# Altium footprint library PcbLib1.PcbLib: 3 footprints
Each footprint in its own frame and in the unit in brackets; x right, y up, seen from the top. Pads: shape width x height; smd on the part's side, far side on the other; paste and mask are expansions set on the pad; w line width, h text height; cw(c..) or ccw(c..) is an arc to the next point about the centre after c.
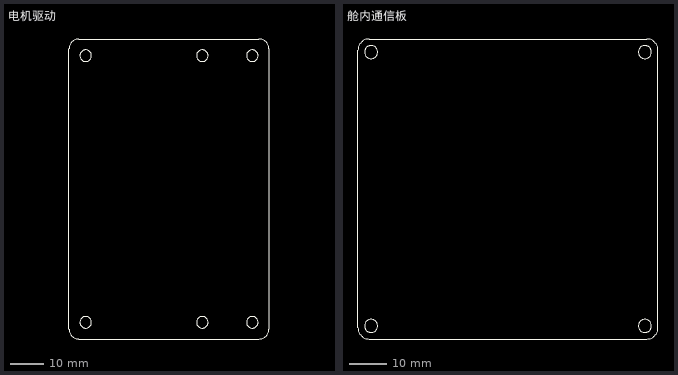
[diagram p0: the footprints below, top view; thin cyan lines are the x and y axes]

## 主控 [mm]

## 电机驱动 [mm]
Top Overlay:
  circle w0.013: c-1229.994,-1184.994 r1.75
  circle w0.013: c-1214.994,-1264.994 r1.75
  circle w0.013: c-1264.994,-1184.994 r1.75
  circle w0.013: c-1214.994,-1184.994 r1.75
  circle w0.013: c-1264.994,-1264.994 r1.75
  circle w0.013: c-1229.994,-1264.994 r1.75
  lines w0.013: -1269.994,-1266.994 ccw(c-1266.994,-1266.994) -1266.994,-1269.994 -1212.994,-1269.994 ccw(c-1212.994,-1266.994) -1209.994,-1266.994 -1209.994,-1182.994 ccw(c-1212.994,-1182.994) -1212.994,-1179.994 -1266.994,-1179.994 ccw(c-1266.994,-1182.994) -1269.994,-1182.994 -1269.994,-1266.994

## 舱内通信板 [mm]
Top Overlay:
  circle w0.013: c-1266.494,-1266.494 r1.75
  circle w0.013: c-1193.494,-1193.494 r1.75
  circle w0.013: c-1266.494,-1193.494 r1.75
  circle w0.013: c-1193.494,-1266.494 r1.75
  lines w0.013: -1269.994,-1266.994 ccw(c-1266.994,-1266.994) -1266.994,-1269.994 -1192.994,-1269.994 ccw(c-1192.994,-1266.994) -1189.994,-1266.994 -1189.994,-1192.994 ccw(c-1192.994,-1192.994) -1192.994,-1189.994 -1266.994,-1189.994 ccw(c-1266.994,-1192.994) -1269.994,-1192.994 -1269.994,-1266.994